# Altium footprint library DO-214AB.PcbLib: 1 footprints
Each footprint in its own frame and in the unit in brackets; x right, y up, seen from the top. Pads: shape width x height; smd on the part's side, far side on the other; paste and mask are expansions set on the pad; w line width, h text height; cw(c..) or ccw(c..) is an arc to the next point about the centre after c.
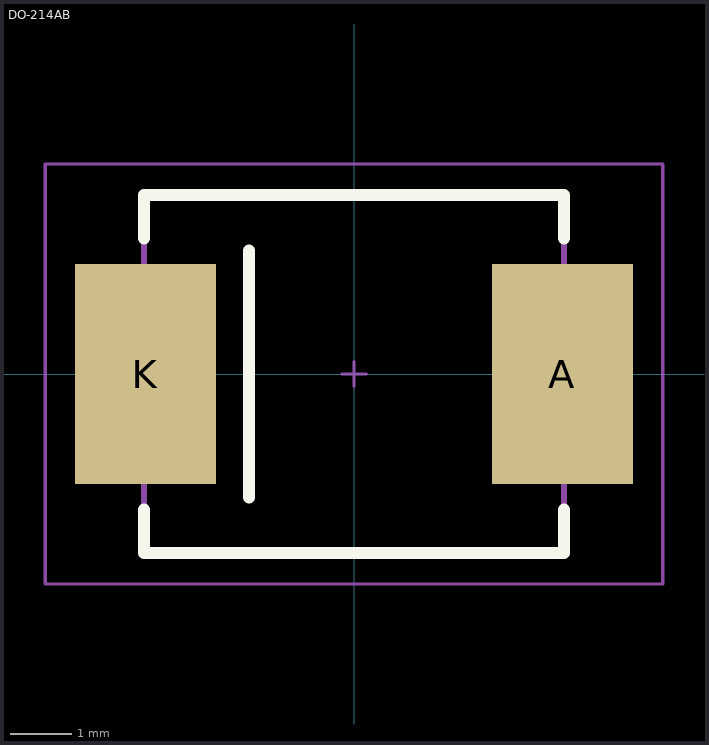
[diagram p0: the footprint, top view; thin cyan lines are the x and y axes]

## DO-214AB [mil]
pads (2):
  rect 90x140 smd: A(132.87,0) K(-132.87,0)
Top Overlay:
  lines w7.87: -133.86,-86.61 -133.86,-114.17 133.86,-114.17 133.86,-86.61 ; -133.86,86.61 -133.86,114.17 133.86,114.17 133.86,86.61 ; -66.93,-78.74 -66.93,78.74
Mechanical 13:
  lines w3.94: -133.86,-62.99 -153.54,-62.99 -153.54,62.99 -133.86,62.99 ; 133.86,-62.99 153.54,-62.99 153.54,62.99 133.86,62.99 ; -133.86,-114.17 133.86,-114.17 133.86,114.17 -133.86,114.17 -133.86,-114.17
Mechanical 15:
  lines w1.97: -7.87,0 7.87,0 ; 0,-7.87 0,7.87 ; -196.85,-133.86 -196.85,133.86 196.85,133.86 196.85,-133.86 -196.85,-133.86
3D body: height 39.37, standoff 0, extent 133.88,-62.97 153.52,62.97
3D body: height 90.55, standoff 0, extent -133.84,-114.15 133.84,114.15
3D body: height 39.37, standoff 0, extent -153.52,-62.97 -133.88,62.97